# Altium integrated library BM04B-SRSS-TB.IntLib: 1 symbol
Pins are listed as number, name and electrical type; pins without a type are passive.

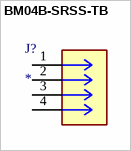
[diagram p0: symbol BM04B-SRSS-TB]

## BM04B-SRSS-TB
designator J?
Connector Header Surface Mount 4 position 0.039 (1.00mm); MF: JST Sales; MP: BM04B-SRSS-TB; SnapEDA_Link: https://www.snapeda.com/parts/BM04B-SRSS-TB/JST/view-part/?ref=snap; Package: None; Value: *; Check_prices: https://www.snapeda.com/parts/BM04B-SRSS-TB/JST/view-part/?ref=eda
footprint CONN4_BM04B-SRSS_JST
pins: 1, 2, 3, 4